# Altium footprint library PCB - DIODES - LED 0603_1608.PCBLIB: 1 footprints
Each footprint in its own frame and in the unit in brackets; x right, y up, seen from the top. Pads: shape width x height; smd on the part's side, far side on the other; paste and mask are expansions set on the pad; w line width, h text height; cw(c..) or ccw(c..) is an arc to the next point about the centre after c.
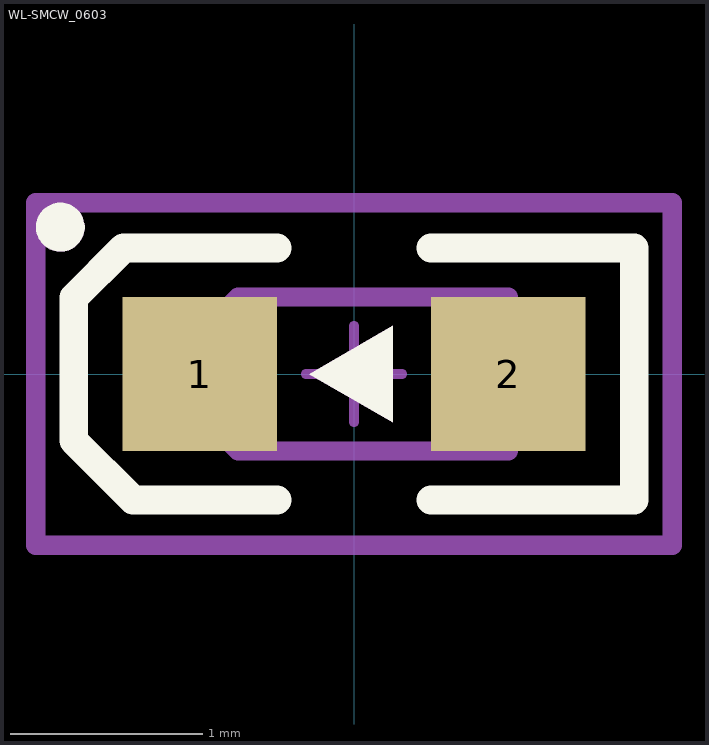
[diagram p0: the footprint, top view; thin cyan lines are the x and y axes]

## WL-SMCW_0603 [mm] "SMD Mono-color Chip LED, body 1.6x0.8mm"
height 0.7
pads (2):
  rect 0.8x0.8 smd: 1(-0.8,0) 2(0.8,0)
Top Overlay:
  region: -0.233,0 0.2,-0.25 0.2,0.25
  lines w0.127: -1.467,0.79 ccw(c-1.524,0.762) -1.46,0.762
  lines w0.15: -0.4,-0.654 -1.146,-0.654 -1.454,-0.346 -1.454,0.396 -1.196,0.654 -0.4,0.654 ; 0.4,-0.654 1.454,-0.654 1.454,0.654 0.4,0.654
Top Assembly:
  region: -0.233,0 0.2,-0.25 0.2,0.25
  lines w0.1: -0.8,-0.2 -0.8,0.2 -0.6,0.4 0.8,0.4 0.8,-0.4 -0.6,-0.4 -0.8,-0.2
  lines w0.127: -1.467,0.79 ccw(c-1.524,0.762) -1.46,0.762
Top Courtyard:
  lines w0.1: -1.651,-0.889 1.651,-0.889 1.651,0.889 -1.651,0.889 -1.651,-0.889
Top Designator:
  text ".Designator" at 1.016,-0.32 h1
Top Component Center (Mech11):
  lines w0.05: -0.25,0 0.25,0 ; 0,-0.25 0,0.25
3D body "WL-SMCW_0603_LED.stp": height 0.7, standoff 0, extent -0.8,-0.4 0.8,0.4